# EAGLE library part TC7660EOA (library ruark2)
Charge Pump Switching Regulator IC Positive or Negative Fixed -Vin, 2Vin 1 Output 20mA 8-SOIC (0.154", 3.90mm Width)
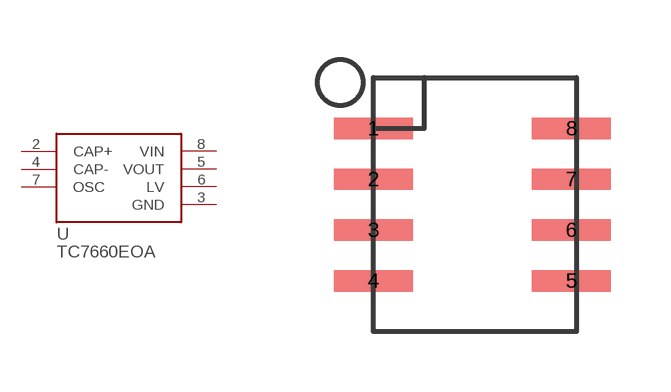
[diagram p185: symbol with the pads of SOIC8; footprint SOIC8]

Designator prefix U

## TC7660EOA (PARTNO: TC7660EOA-ND)  [SOIC8]
2  CAP+
3  GND
4  CAP-
5  VOUT
6  LV
7  OSC
8  VIN

## Footprint SOIC8 (pad centres in mm)
smd 1.981 x 0.533: 1 -2.477,1.905; 2 -2.477,0.635; 3 -2.477,-0.635; 4 -2.477,-1.905; 5 2.477,-1.905; 6 2.477,-0.635; 7 2.477,0.635; 8 2.477,1.905